# Altium footprint library mpcie.PcbLib: 4 footprints
Each footprint in its own frame and in the unit in brackets; x right, y up, seen from the top. Pads: shape width x height; smd on the part's side, far side on the other; paste and mask are expansions set on the pad; w line width, h text height; cw(c..) or ccw(c..) is an arc to the next point about the centre after c.
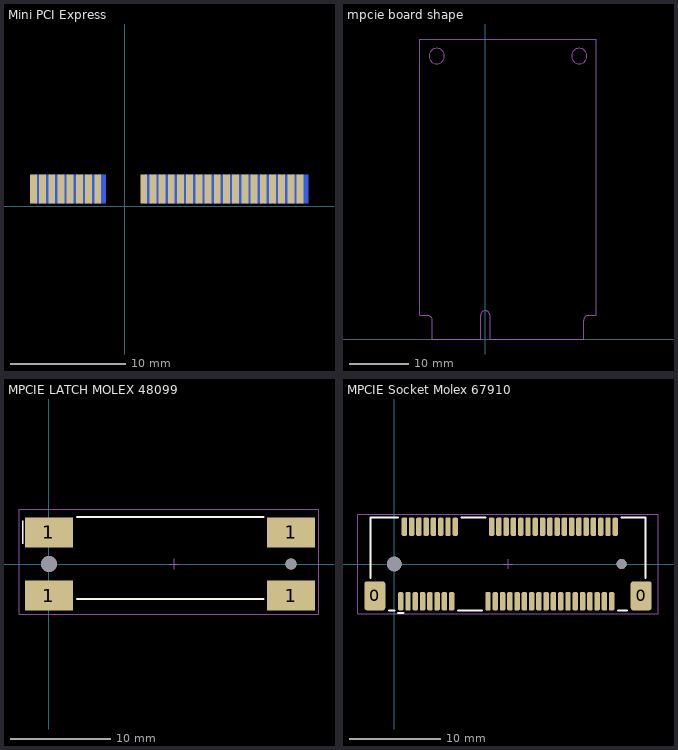
[diagram p0: the footprints below, top view; thin cyan lines are the x and y axes]

## Mini PCI Express [mm]
pads (52):
  rect 0.6x2.5 smd: 1(-7.95,1.5) 3(-7.15,1.5) 5(-6.35,1.5) 7(-5.55,1.5) 9(-4.75,1.5) 11(-3.95,1.5) 13(-3.15,1.5) 15(-2.35,1.5) 17(1.65,1.5) 19(2.45,1.5) 21(3.25,1.5) 23(4.05,1.5) 25(4.85,1.5) 27(5.65,1.5) 29(6.45,1.5) 31(7.25,1.5) 33(8.05,1.5) 35(8.85,1.5) 37(9.65,1.5) 39(10.45,1.5) 41(11.25,1.5) 43(12.05,1.5) 45(12.85,1.5) 47(13.65,1.5) 49(14.45,1.5) 51(15.25,1.5)
  rect 0.6x2.5 smd far side: 2(-7.55,1.5) 4(-6.75,1.5) 6(-5.95,1.5) 8(-5.15,1.5) 10(-4.35,1.5) 12(-3.55,1.5) 14(-2.75,1.5) 16(-1.95,1.5) 18(2.05,1.5) 20(2.85,1.5) 22(3.65,1.5) 24(4.45,1.5) 26(5.25,1.5) 28(6.05,1.5) 30(6.85,1.5) 32(7.65,1.5) 34(8.45,1.5) 36(9.25,1.5) 38(10.05,1.5) 40(10.85,1.5) 42(11.65,1.5) 44(12.45,1.5) 46(13.25,1.5) 48(14.05,1.5) 50(14.85,1.5) 52(15.65,1.5)

## mpcie board shape [mm]
Board Edge:
  circle w0.1: c-8.25,48.05 r1.3
  circle w0.1: c15.95,48.05 r1.3
  lines w0.1: -11.15,4 -9.8,4 cw(c-9.8,3.2) -9,3.2 -9,0 -0.8,0 -0.8,4 cw(c0,4) 0.8,4 0.8,0 16.7,0 16.7,3.2 cw(c17.5,3.2) 17.5,4 18.85,4 18.85,50.95 -11.15,50.95 -11.15,4

## MPCIE LATCH MOLEX 48099 [mm]
pads (6):
  rect 4.8x3 smd paste+0 mask+0: 1(0,-3.15) 1(0,3.15) 1(24.2,-3.15) 1(24.2,3.15)
  round 1.6 hole 1.6 unplated paste-2539.97 mask+0: ""(0,0)
  round 1.1 hole 1.1 unplated paste-2539.97 mask+0: ""(24.2,0)
Top Overlay:
  lines w0.15: -2.632,2.022 -2.632,4.308
  lines w0.2: 2.775,-3.475 21.425,-3.475 ; 2.775,4.725 21.425,4.725
Mechanical 15:
  lines w0.05: -3,-5 27,-5 27,5.5 -3,5.5 -3,-5
  lines w0.1: 12,0 13,0 ; 12.5,-0.5 12.5,0.5
3D body "48099-4000.stp": height 4.85, standoff -0.7, extent -2.125,-4.205 26.325,5.155

## MPCIE Socket Molex 67910 [mm] "MPCIE Socket Molex 67910"
pads (56):
  rrect25% 2.3x3.2 smd: 0(-2.15,-3.5) 0(27.15,-3.5)
  rrect50% 0.6x2 smd: 1(0.7,-4.1) 2(1.1,4.1) 3(1.5,-4.1) 4(1.9,4.1) 5(2.3,-4.1) 6(2.7,4.1) 7(3.1,-4.1) 8(3.5,4.1) 9(3.9,-4.1) 10(4.3,4.1) 11(4.7,-4.1) 12(5.1,4.1) 13(5.5,-4.1) 14(5.9,4.1) 15(6.3,-4.1) 16(6.7,4.1) 17(10.3,-4.1) 18(10.7,4.1) 19(11.1,-4.1) 20(11.5,4.1) 21(11.9,-4.1) 22(12.3,4.1) 23(12.7,-4.1) 24(13.1,4.1) 25(13.5,-4.1) 26(13.9,4.1) 27(14.3,-4.1) 28(14.7,4.1) 29(15.1,-4.1) 30(15.5,4.1) 31(15.9,-4.1) 32(16.3,4.1) 33(16.7,-4.1) 34(17.1,4.1) 35(17.5,-4.1) 36(17.9,4.1) 37(18.3,-4.1) 38(18.7,4.1) 39(19.1,-4.1) 40(19.5,4.1) 41(19.9,-4.1) 42(20.3,4.1) 43(20.7,-4.1) 44(21.1,4.1) 45(21.5,-4.1) 46(21.9,4.1) 47(22.3,-4.1) 48(22.7,4.1) 49(23.1,-4.1) 50(23.5,4.1) 51(23.9,-4.1) 52(24.3,4.1)
  round 1.6 hole 1.6 unplated paste-2539.97 mask+0: ""(0,0)
  round 1.1 hole 1.1 unplated paste-2539.97 mask+0: ""(25,0)
Top Overlay:
  lines w0.2: -2.625,-1.525 -2.625,5.1 0.425,5.1 ; -0.625,-5.1 0.025,-5.1 ; 0.375,-5.4 1.025,-5.4 ; 6.975,-5.1 9.625,-5.1 ; 7.375,5.1 10.025,5.1 ; 24.575,-5.1 25.625,-5.1 ; 24.975,5.1 27.625,5.1 27.625,-1.525
Mechanical 15:
  lines w0.05: -4,-5.5 29,-5.5 29,5.5 -4,5.5 -4,-5.5
  lines w0.1: 12,0 13,0 ; 12.5,-0.5 12.5,0.5
3D body "67910-0002.stp": height 4.1, standoff -0.5, extent -2.5,-5.1 27.5,5.1